# Altium schematic symbol library Resistors.SchLib: 237 symbols (part 1 of 2)
Pins are listed as number, name and electrical type; pins without a type are passive.

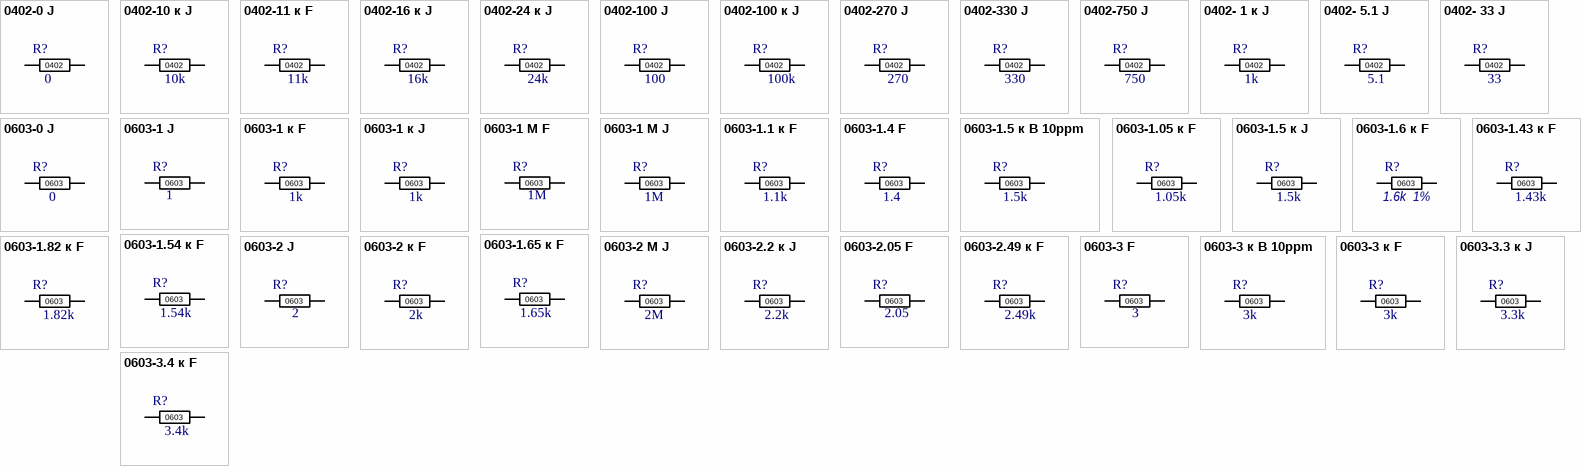
[diagram p0: symbols 0402-0 J to 0603-3.4 к F]

## 0402-0 J
designator R?  value 0  Foot: 0402  (hidden comment: 0402-0 J)
Резистор Чип; Power: 0.062W
footprint R 0402 (Chip Capacitor, 2-Leads, Body 1,00x0,50mm, IPC Medium Density)
pins: 1, 2

## 0402-10 к J
designator R?  value 10k  Foot: 0402  (hidden comment: 0402-10 к J)
Резистор Чип; Power: 0.062W
footprint resistor_0402 (Chip Capacitor, 2-Leads, Body 1,00x0,50mm, IPC Medium Density)
pins: 1, 2

## 0402-11 к F
designator R?  value 11k  Foot: 0402  (hidden comment: 0402-11 к F)
Резистор Чип; Power: 0.062W
footprint resistor_0402 (Chip Capacitor, 2-Leads, Body 1,00x0,50mm, IPC Medium Density)
pins: 1, 2

## 0402-16 к J
designator R?  value 16k  Foot: 0402  (hidden comment: 0402-16 к J)
Резистор Чип; Power: 0.062W
footprint resistor_0402 (Chip Capacitor, 2-Leads, Body 1,00x0,50mm, IPC Medium Density)
pins: 1, 2

## 0402-24 к J
designator R?  value 24k  Foot: 0402  (hidden comment: 0402-24 к J)
Резистор Чип; Power: 0.062W
footprint resistor_0402 (Chip Capacitor, 2-Leads, Body 1,00x0,50mm, IPC Medium Density)
pins: 1, 2

## 0402-100 J
designator R?  value 100  Foot: 0402  (hidden comment: 0402-100 J)
Резистор Чип; Power: 0.062W
footprint resistor_0402 (Chip Capacitor, 2-Leads, Body 1,00x0,50mm, IPC Medium Density)
pins: 1, 2

## 0402-100 к J
designator R?  value 100k  Foot: 0402  (hidden comment: 0402-100 к J)
Резистор Чип; Power: 0.062W
footprint resistor_0402 (Chip Capacitor, 2-Leads, Body 1,00x0,50mm, IPC Medium Density)
pins: 1, 2

## 0402-270 J
designator R?  value 270  Foot: 0402  (hidden comment: 0402-270 J)
Резистор Чип; Power: 0.062W
footprint R 0402 (Chip Capacitor, 2-Leads, Body 1,00x0,50mm, IPC Medium Density)
pins: 1, 2

## 0402-330 J
designator R?  value 330  Foot: 0402  (hidden comment: 0402-330 J)
Резистор Чип; Power: 0.062W
footprint resistor_0402 (Chip Capacitor, 2-Leads, Body 1,00x0,50mm, IPC Medium Density)
pins: 1, 2

## 0402-750 J
designator R?  value 750  Foot: 0402  (hidden comment: 0402-750 J)
Резистор Чип; Power: 0.062W
footprint resistor_0402 (Chip Capacitor, 2-Leads, Body 1,00x0,50mm, IPC Medium Density)
pins: 1, 2

## 0402- 1 к J
designator R?  value 1k  Foot: 0402  (hidden comment: 0402- 1 к J)
Резистор Чип; Power: 0.062W
footprint resistor_0402 (Chip Capacitor, 2-Leads, Body 1,00x0,50mm, IPC Medium Density)
pins: 1, 2

## 0402- 5.1 J
designator R?  value 5.1  Foot: 0402  (hidden comment: 0402- 5.1 J)
Резистор Чип; Power: 0.062W
footprint resistor_0402 (Chip Capacitor, 2-Leads, Body 1,00x0,50mm, IPC Medium Density)
pins: 1, 2

## 0402- 33 J
designator R?  value 33  Foot: 0402  (hidden comment: 0402- 33 J)
Резистор Чип; Power: 0.062W
footprint resistor_0402 (Chip Capacitor, 2-Leads, Body 1,00x0,50mm, IPC Medium Density)
pins: 1, 2

## 0603-0 J
designator R?, comment value 0  Foot: 0603  (hidden comment: 0603-0  J)
Резистор Чип; Power: 0.1W
footprint RESistor_0603 (Chip Capacitor, 2-Leads, Body 1,60x0,80mm, IPC Medium Density)
pins: 1, 2

## 0603-1 J
designator R?, comment value 1  Foot: 0603  (hidden comment: 0603-1  J)
Резистор Чип; Power: 0.1W; Price, $: 0.015
footprint RESistor_0603 (Chip Capacitor, 2-Leads, Body 1,60x0,80mm, IPC Medium Density)
pins: 1, 2

## 0603-1 к F
designator R?  value 1k  Foot: 0603  (hidden comment: 0603-1 к F)
Резистор Чип; Power: 0.1W; Tolerance: 1%
footprint RESistor_0603 (Chip Capacitor, 2-Leads, Body 1,60x0,80mm, IPC Medium Density)
pins: 1, 2

## 0603-1 к J
designator R?  value 1k  Foot: 0603  (hidden comment: 0603-1 к J)
Резистор Чип; Power: 0.1W; Price, $: 0.015
footprint RESistor_0603 (Chip Capacitor, 2-Leads, Body 1,60x0,80mm, IPC Medium Density)
pins: 1, 2

## 0603-1 М F
designator R?  value 1M  Foot: 0603  (hidden comment: 0603-1 М F)
Резистор Чип; Power: 0.125W; Tolerance: 1%
footprint RESistor_0603 (Chip Capacitor, 2-Leads, Body 1,60x0,80mm, IPC Medium Density)
pins: 1, 2

## 0603-1 М J
designator R?  value 1M  Foot: 0603  (hidden comment: 0603-1 М J)
Резистор Чип; Power: 0.1W; Price, $: 0.015
footprint RESistor_0603 (Chip Capacitor, 2-Leads, Body 1,60x0,80mm, IPC Medium Density)
pins: 1, 2

## 0603-1.1 к F
designator R?  value 1.1k  Foot: 0603  (hidden comment: 0603-1.1 к F)
Резистор Чип; Power: 0.1W; Tolerance: 1%; Price, $: 0.025
footprint RESistor_0603 (Chip Capacitor, 2-Leads, Body 1,60x0,80mm, IPC Medium Density)
pins: 1, 2

## 0603-1.4 F
designator R?  value 1.4  Foot: 0603  (hidden comment: 0603-1.4 F)
Резистор Чип; Power: 0.1W; Tolerance: 1%
footprint resistor_0603 (Chip Capacitor, 2-Leads, Body 1,60x0,80mm, IPC Medium Density)
pins: 1, 2

## 0603-1.5 к B 10ppm
designator R?, comment value 1.5k  Foot: 0603  (hidden comment: RT0603BRB071K5L, Yageo)
Резистор Чип; Power: 0.1W; Tolerance: 0.1%; Temperature Coefficient: 10 ppm; Price, $: 0.3
footprint resistor_0603 (Chip Capacitor, 2-Leads, Body 1,60x0,80mm, IPC Medium Density)
pins: 1, 2

## 0603-1.05 к F
designator R?  value 1.05k  Foot: 0603  (hidden comment: 0603-1.05 к F)
Резистор Чип; Power: 0.1W; Tolerance: 1%
footprint RESistor_0603 (Chip Capacitor, 2-Leads, Body 1,60x0,80mm, IPC Medium Density)
pins: 1, 2

## 0603-1.5 к J
designator R?  value 1.5k  Foot: 0603  (hidden comment: 0603-1.5 к J)
Резистор Чип; Power: 0.1W
footprint resistor_0603 (Chip Capacitor, 2-Leads, Body 1,60x0,80mm, IPC Medium Density)
pins: 1, 2

## 0603-1.6 к F
designator R?  value 1.6k  Tolerance: 1%  Foot: 0603  (hidden comment: 0603-1.6 к F)
Резистор Чип; Power: 0.1W
footprint resistor_0603 (Chip Capacitor, 2-Leads, Body 1,60x0,80mm, IPC Medium Density)
pins: 1, 2

## 0603-1.43 к F
designator R?  value 1.43k  Foot: 0603  (hidden comment: 0603-1.43 к F)
Резистор Чип; Power: 0.1W; Tolerance: 1%
footprint resistor_0603 (Chip Capacitor, 2-Leads, Body 1,60x0,80mm, IPC Medium Density)
pins: 1, 2

## 0603-1.54 к F
designator R?  value 1.54k  Foot: 0603  (hidden comment: 0603-1.54 к F)
Резистор Чип; Power: 0.1W; Tolerance: 1%
footprint resistor_0603 (Chip Capacitor, 2-Leads, Body 1,60x0,80mm, IPC Medium Density)
pins: 1, 2

## 0603-1.65 к F
designator R?  value 1.65k  Foot: 0603  (hidden comment: 0603-1.65 к F)
Резистор Чип; Power: 0.1W; Tolerance: 1%
footprint resistor_0603 (Chip Capacitor, 2-Leads, Body 1,60x0,80mm, IPC Medium Density)
pins: 1, 2

## 0603-1.82 к F
designator R?  value 1.82k  Foot: 0603  (hidden comment: 0603-1.82 к F)
Резистор Чип; Power: 0.1W; Tolerance: 1%
footprint resistor_0603 (Chip Capacitor, 2-Leads, Body 1,60x0,80mm, IPC Medium Density)
pins: 1, 2

## 0603-2 J
designator R?  value 2  Foot: 0603  (hidden comment: 0603-2 J)
Резистор Чип; Power: 0.1W
footprint resistor_0603 (Chip Capacitor, 2-Leads, Body 1,60x0,80mm, IPC Medium Density)
pins: 1, 2

## 0603-2 к F
designator R?  value 2k  Foot: 0603  (hidden comment: 0603-2 к F)
Резистор Чип; Power: 0.1W; Tolerance: 1%; Price, $: 0.015
footprint resistor_0603 (Chip Capacitor, 2-Leads, Body 1,60x0,80mm, IPC Medium Density)
pins: 1, 2

## 0603-2 М J
designator R?  value 2M  Foot: 0603  (hidden comment: 0603-2 М J)
Резистор Чип; Power: 0.1W; Price, $: 0.015
footprint resistor_0603 (Chip Capacitor, 2-Leads, Body 1,60x0,80mm, IPC Medium Density)
pins: 1, 2

## 0603-2.2 к J
designator R?  value 2.2k  Foot: 0603  (hidden comment: 0603-2.2 к J)
Резистор Чип; Power: 0.1W
footprint resistor_0603 (Chip Capacitor, 2-Leads, Body 1,60x0,80mm, IPC Medium Density)
pins: 1, 2

## 0603-2.05 F
designator R?  value 2.05  Foot: 0603  (hidden comment: 0603-2.05 F)
Резистор Чип; Power: 0.1W; Tolerance: 1%
footprint resistor_0603 (Chip Capacitor, 2-Leads, Body 1,60x0,80mm, IPC Medium Density)
pins: 1, 2

## 0603-2.49 к F
designator R?  value 2.49k  Foot: 0603  (hidden comment: 0603-2.49 к F)
Резистор Чип; Power: 0.1W; Tolerance: 1%
footprint resistor_0603 (Chip Capacitor, 2-Leads, Body 1,60x0,80mm, IPC Medium Density)
pins: 1, 2

## 0603-3 F
designator R?  value 3  Foot: 0603  (hidden comment: 0603-3 F)
Резистор Чип; Power: 0.1W; Tolerance: 1%
footprint resistor_0603 (Chip Capacitor, 2-Leads, Body 1,60x0,80mm, IPC Medium Density)
pins: 1, 2

## 0603-3 к B 10ppm
designator R?, comment value 3k  Foot: 0603  (hidden comment: RT0603BRB073KL, Yageo)
Резистор Чип; Power: 0.1W; Tolerance: 0.1%; Temperature Coefficient: 10 ppm; Price, $: 0.3
footprint resistor_0603 (Chip Capacitor, 2-Leads, Body 1,60x0,80mm, IPC Medium Density)
pins: 1, 2

## 0603-3 к F
designator R?  value 3k  Foot: 0603  (hidden comment: 0603-3 к F)
Резистор Чип; Power: 0.1W; Tolerance: 1%
footprint resistor_0603 (Chip Capacitor, 2-Leads, Body 1,60x0,80mm, IPC Medium Density)
pins: 1, 2

## 0603-3.3 к J
designator R?  value 3.3k  Foot: 0603  (hidden comment: 0603-3.3 к J)
Резистор Чип; Power: 0.1W; Price, $: 0.015
footprint resistor_0603 (Chip Capacitor, 2-Leads, Body 1,60x0,80mm, IPC Medium Density)
pins: 1, 2

## 0603-3.4 к F
designator R?  value 3.4k  Foot: 0603  (hidden comment: 0603-3.4 к F)
Резистор Чип; Power: 0.1W; Tolerance: 1%
footprint resistor_0603 (Chip Capacitor, 2-Leads, Body 1,60x0,80mm, IPC Medium Density)
pins: 1, 2

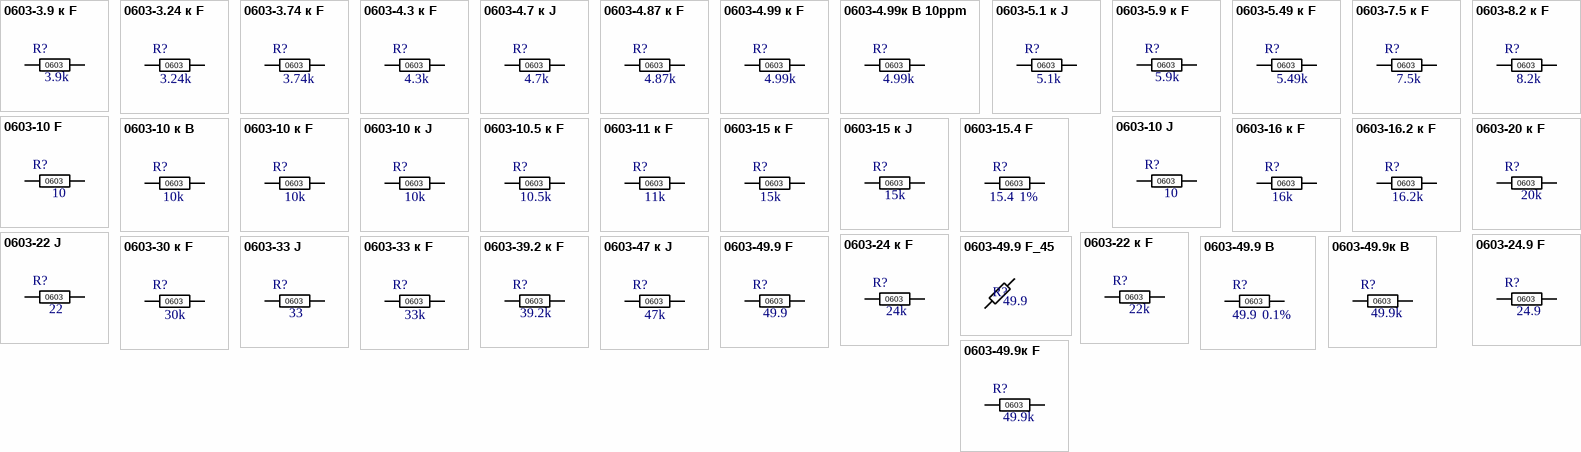
[diagram p1: symbols 0603-3.9 к F to 0603-49.9к F]

## 0603-3.9 к F
designator R?  value 3.9k  Foot: 0603  (hidden comment: 0603-3.9 к F)
Резистор Чип; Power: 0.1W; Tolerance: 1%
footprint resistor_0603 (Chip Capacitor, 2-Leads, Body 1,60x0,80mm, IPC Medium Density)
pins: 1, 2

## 0603-3.24 к F
designator R?  value 3.24k  Foot: 0603  (hidden comment: 0603-3.24 к F)
Резистор Чип; Power: 0.1W; Tolerance: 1%
footprint resistor_0603 (Chip Capacitor, 2-Leads, Body 1,60x0,80mm, IPC Medium Density)
pins: 1, 2

## 0603-3.74 к F
designator R?  value 3.74k  Foot: 0603  (hidden comment: 0603-3.74 к F)
Резистор Чип; Power: 0.1W; Tolerance: 1%
footprint resistor_0603 (Chip Capacitor, 2-Leads, Body 1,60x0,80mm, IPC Medium Density)
pins: 1, 2

## 0603-4.3 к F
designator R?  value 4.3k  Foot: 0603  (hidden comment: 0603-4.3 к F)
Резистор Чип; Power: 0.1W; Tolerance: 1%
footprint resistor_0603 (Chip Capacitor, 2-Leads, Body 1,60x0,80mm, IPC Medium Density)
pins: 1, 2

## 0603-4.7 к J
designator R?  value 4.7k  Foot: 0603  (hidden comment: 0603-4.7 к J)
Резистор Чип; Power: 0.1W; Price, $: 0.015
footprint resistor_0603 (Chip Capacitor, 2-Leads, Body 1,60x0,80mm, IPC Medium Density)
pins: 1, 2

## 0603-4.87 к F
designator R?  value 4.87k  Foot: 0603  (hidden comment: 0603-4.87 к F)
Резистор Чип; Power: 0.1W; Tolerance: 1%
footprint resistor_0603 (Chip Capacitor, 2-Leads, Body 1,60x0,80mm, IPC Medium Density)
pins: 1, 2

## 0603-4.99 к F
designator R?  value 4.99k  Foot: 0603  (hidden comment: 0603-4.99 к F)
Резистор Чип; Power: 0.1W; Tolerance: 1%; Price, $: 0.025
footprint resistor_0603 (Chip Capacitor, 2-Leads, Body 1,60x0,80mm, IPC Medium Density)
pins: 1, 2

## 0603-4.99к B 10ppm
designator R?  value 4.99k  Foot: 0603  (hidden comment: 0603-4.99к B 10ppm)
Резистор Чип; Power: 0.1W; Tolerance: 0.1%; Temperature Coefficient: 10ppm
footprint resistor_0603 (Chip Capacitor, 2-Leads, Body 1,60x0,80mm, IPC Medium Density)
pins: 1, 2

## 0603-5.1 к J
designator R?  value 5.1k  Foot: 0603  (hidden comment: 0603-5.1 к J)
Резистор Чип; Power: 0.1W
footprint resistor_0603 (Chip Capacitor, 2-Leads, Body 1,60x0,80mm, IPC Medium Density)
pins: 1, 2

## 0603-5.9 к F
designator R?  value 5.9k  Foot: 0603  (hidden comment: 0603-5.9 к F)
Резистор Чип; Power: 0.1W; Tolerance: 1%
footprint resistor_0603 (Chip Capacitor, 2-Leads, Body 1,60x0,80mm, IPC Medium Density)
pins: 1, 2

## 0603-5.49 к F
designator R?  value 5.49k  Foot: 0603  (hidden comment: 0603-5.49 к F)
Резистор Чип; Power: 0.1W; Tolerance: 1%
footprint resistor_0603 (Chip Capacitor, 2-Leads, Body 1,60x0,80mm, IPC Medium Density)
pins: 1, 2

## 0603-7.5 к F
designator R?  value 7.5k  Foot: 0603  (hidden comment: 0603-7.5 к F)
Резистор Чип; Power: 0.1W; Tolerance: 1%
footprint resistor_0603 (Chip Capacitor, 2-Leads, Body 1,60x0,80mm, IPC Medium Density)
pins: 1, 2

## 0603-8.2 к F
designator R?  value 8.2k  Foot: 0603  (hidden comment: 0603-8.2 к F)
Резистор Чип; Power: 0.1W; Tolerance: 1%
footprint resistor_0603 (Chip Capacitor, 2-Leads, Body 1,60x0,80mm, IPC Medium Density)
pins: 1, 2

## 0603-10 F
designator R?  value 10  Foot: 0603  (hidden comment: 0603-10 F)
Резистор Чип; Power: 0.1W; Tolerance: 1%; Price, $: 0.025
footprint resistor_0603 (Chip Capacitor, 2-Leads, Body 1,60x0,80mm, IPC Medium Density)
pins: 1, 2

## 0603-10 J
designator R?  value 10  Foot: 0603  (hidden comment: 0603-10 J)
Резистор Чип; Power: 0.1W
footprint resistor_0603 (Chip Capacitor, 2-Leads, Body 1,60x0,80mm, IPC Medium Density)
pins: 1, 2

## 0603-10 к B
designator R?  value 10k  Foot: 0603  (hidden comment: 0603-10 к B)
Резистор Чип; Power: 0.1W; Tolerance: 0.1%
footprint resistor_0603 (Chip Capacitor, 2-Leads, Body 1,60x0,80mm, IPC Medium Density)
pins: 1, 2

## 0603-10 к F
designator R?, comment value 10k  Foot: 0603  (hidden comment: 0603-10к F)
Резистор Чип; Power: 0.1W; Tolerance: 1%
footprint resistor_0603 (Chip Capacitor, 2-Leads, Body 1,60x0,80mm, IPC Medium Density)
pins: 1, 2

## 0603-10 к J
designator R?, comment value 10k  Foot: 0603  (hidden comment: 0603-10к J)
Резистор Чип; Power: 0.1W; Price, $: 0.015
footprint resistor_0603 (Chip Capacitor, 2-Leads, Body 1,60x0,80mm, IPC Medium Density)
pins: 1, 2

## 0603-10.5 к F
designator R?  value 10.5k  Foot: 0603  (hidden comment: 0603-10.5 к F)
Резистор Чип; Power: 0.125W; Tolerance: 1%
footprint resistor_0603 (Chip Capacitor, 2-Leads, Body 1,60x0,80mm, IPC Medium Density)
pins: 1, 2

## 0603-11 к F
designator R?  value 11k  Foot: 0603  (hidden comment: 0603-11 к F)
Резистор Чип; Power: 0.1W; Tolerance: 1%; Price, $: 0.025
footprint resistor_0603 (Chip Capacitor, 2-Leads, Body 1,60x0,80mm, IPC Medium Density)
pins: 1, 2

## 0603-15 к F
designator R?  value 15k  Foot: 0603  (hidden comment: 0603-15 к F)
Резистор Чип; Power: 0.1W; Tolerance: 1%
footprint resistor_0603 (Chip Capacitor, 2-Leads, Body 1,60x0,80mm, IPC Medium Density)
pins: 1, 2

## 0603-15 к J
designator R?  value 15k  Foot: 0603  (hidden comment: 0603-15 к J)
Резистор Чип; Power: 0.1W
footprint resistor_0603 (Chip Capacitor, 2-Leads, Body 1,60x0,80mm, IPC Medium Density)
pins: 1, 2

## 0603-15.4 F
designator R?  value 15.4  Tolerance: 1%  Foot: 0603  (hidden comment: 0603-15.4 F)
Резистор Чип; Power: 0.1W
footprint resistor_0603 (Chip Capacitor, 2-Leads, Body 1,60x0,80mm, IPC Medium Density)
pins: 1, 2

## 0603-16 к F
designator R?  value 16k  Foot: 0603  (hidden comment: 0603-16 к F)
Резистор Чип; Power: 0.1W; Tolerance: 1%
footprint resistor_0603 (Chip Capacitor, 2-Leads, Body 1,60x0,80mm, IPC Medium Density)
pins: 1, 2

## 0603-16.2 к F
designator R?  value 16.2k  Foot: 0603  (hidden comment: 0603-16.2 к F)
Резистор Чип; Power: 0.1W; Tolerance: 1%
footprint resistor_0603 (Chip Capacitor, 2-Leads, Body 1,60x0,80mm, IPC Medium Density)
pins: 1, 2

## 0603-20 к F
designator R?  value 20k  Foot: 0603  (hidden comment: 0603-20 к F)
Резистор Чип; Power: 0.1W; Tolerance: 1%
footprint resistor_0603 (Chip Capacitor, 2-Leads, Body 1,60x0,80mm, IPC Medium Density)
pins: 1, 2

## 0603-22 J
designator R?  value 22  Foot: 0603  (hidden comment: 0603-22 J)
Резистор Чип; Power: 0.1W
footprint resistor_0603 (Chip Capacitor, 2-Leads, Body 1,60x0,80mm, IPC Medium Density)
pins: 1, 2

## 0603-22 к F
designator R?  value 22k  Foot: 0603  (hidden comment: 0603-22 к F)
Резистор Чип; Power: 0.1W; Tolerance: 1%
footprint resistor_0603 (Chip Capacitor, 2-Leads, Body 1,60x0,80mm, IPC Medium Density)
pins: 1, 2

## 0603-24 к F
designator R?  value 24k  Foot: 0603  (hidden comment: 0603-24 к F)
Резистор Чип; Power: 0.1W; Tolerance: 1%
footprint resistor_0603 (Chip Capacitor, 2-Leads, Body 1,60x0,80mm, IPC Medium Density)
pins: 1, 2

## 0603-24.9 F
designator R?  value 24.9  Foot: 0603  (hidden comment: 0603-24.9 F)
Резистор Чип; Power: 0.1W; Tolerance: 1%
footprint resistor_0603 (Chip Capacitor, 2-Leads, Body 1,60x0,80mm, IPC Medium Density)
pins: 1, 2

## 0603-30 к F
designator R?, comment value 30k  Foot: 0603  (hidden comment: 0603-30к F)
Резистор Чип; Power: 0.1W; Tolerance: 1%
footprint resistor_0603 (Chip Capacitor, 2-Leads, Body 1,60x0,80mm, IPC Medium Density)
pins: 1, 2

## 0603-33 J
designator R?  value 33  Foot: 0603  (hidden comment: 0603-33 J)
Резистор Чип; Power: 0.1W
footprint resistor_0603 (Chip Capacitor, 2-Leads, Body 1,60x0,80mm, IPC Medium Density)
pins: 1, 2

## 0603-33 к F
designator R?  value 33k  Foot: 0603  (hidden comment: 0603-33 к F)
Резистор Чип; Power: 0.1W; Tolerance: 1%; Price, $: 0.025
footprint resistor_0603 (Chip Capacitor, 2-Leads, Body 1,60x0,80mm, IPC Medium Density)
pins: 1, 2

## 0603-39.2 к F
designator R?  value 39.2k  Foot: 0603  (hidden comment: 0603-39.2 к F)
Резистор Чип; Power: 0.1W; Tolerance: 1%
footprint resistor_0603 (Chip Capacitor, 2-Leads, Body 1,60x0,80mm, IPC Medium Density)
pins: 1, 2

## 0603-47 к J
designator R?, comment value 47k  Foot: 0603  (hidden comment: 0603-47к J)
Резистор Чип; Power: 0.1W
footprint resistor_0603 (Chip Capacitor, 2-Leads, Body 1,60x0,80mm, IPC Medium Density)
pins: 1, 2

## 0603-49.9 B
designator R?, comment value 49.9  Tolerance: 0.1%  Foot: 0603  (hidden comment: 0603-49.9 B 10ppm)
Резистор Чип; Power: 0.1W; Temperature Coefficient: 10ppm
footprint resistor_0603 (Chip Capacitor, 2-Leads, Body 1,60x0,80mm, IPC Medium Density)
pins: 1, 2

## 0603-49.9 F
designator R?  value 49.9  Foot: 0603  (hidden comment: 0603-49.9 F)
Резистор Чип; Power: 0.1W; Tolerance: 1%
footprint resistor_0603 (Chip Capacitor, 2-Leads, Body 1,60x0,80mm, IPC Medium Density)
pins: 1, 2

## 0603-49.9 F_45
designator R?  value 49.9  (hidden comment: 0603-49.9 F_45)
Резистор Чип; Power: 0.1W; Tolerance: 1%
footprint resistor_0603 (Chip Capacitor, 2-Leads, Body 1,60x0,80mm, IPC Medium Density)
pins: 1, 2

## 0603-49.9к B
designator R?  value 49.9k  Foot: 0603  (hidden comment: 0603-49.9к B)
Резистор Чип; Power: 0.1W; Tolerance: 0.1%
footprint R 0603 (Chip Capacitor, 2-Leads, Body 1,60x0,80mm, IPC Medium Density)
pins: 1, 2

## 0603-49.9к F
designator R?  value 49.9k  Foot: 0603  (hidden comment: 0603-49.9к F)
Резистор Чип; Power: 0.1W; Tolerance: 1%
footprint resistor_0603 (Chip Capacitor, 2-Leads, Body 1,60x0,80mm, IPC Medium Density)
pins: 1, 2

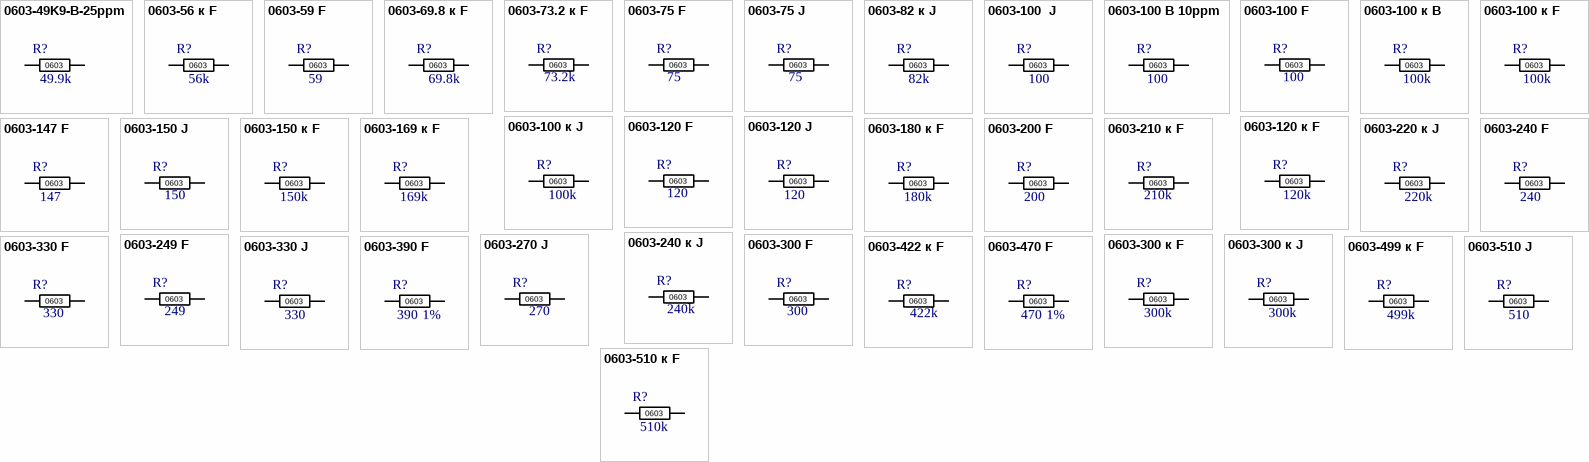
[diagram p2: symbols 0603-49K9-B-25ppm to 0603-510 к F]

## 0603-49K9-B-25ppm
designator R?  value 49.9k  Foot: 0603  (hidden comment: 0603-49K9-B-25ppm)
Резистор Чип; Power: 0.125W; Tolerance: 0.1%
footprint resistor_0603 (Chip Capacitor, 2-Leads, Body 1,60x0,80mm, IPC Medium Density)
pins: 1, 2

## 0603-56 к F
designator R?  value 56k  Foot: 0603  (hidden comment: 0603-56 к F)
Резистор Чип; Power: 0.1W; Tolerance: 1%
footprint resistor_0603 (Chip Capacitor, 2-Leads, Body 1,60x0,80mm, IPC Medium Density)
pins: 1, 2

## 0603-59 F
designator R?  value 59  Foot: 0603  (hidden comment: 0603-59 F)
Резистор Чип; Power: 0.1W; Tolerance: 1%
footprint resistor_0603 (Chip Capacitor, 2-Leads, Body 1,60x0,80mm, IPC Medium Density)
pins: 1, 2

## 0603-69.8 к F
designator R?  value 69.8k  Foot: 0603  (hidden comment: 0603-69.8 к F)
Резистор Чип; Power: 0.1W; Tolerance: 1%
footprint resistor_0603 (Chip Capacitor, 2-Leads, Body 1,60x0,80mm, IPC Medium Density)
pins: 1, 2

## 0603-73.2 к F
designator R?  value 73.2k  Foot: 0603  (hidden comment: 0603-73.2 к F)
Резистор Чип; Power: 0.1W; Tolerance: 1%
footprint resistor_0603 (Chip Capacitor, 2-Leads, Body 1,60x0,80mm, IPC Medium Density)
pins: 1, 2

## 0603-75 F
designator R?  value 75  Foot: 0603  (hidden comment: 0603-75 F)
Резистор Чип; Power: 0.1W; Tolerance: 1%; Price, $: 0.015
footprint resistor_0603 (Chip Capacitor, 2-Leads, Body 1,60x0,80mm, IPC Medium Density)
pins: 1, 2

## 0603-75 J
designator R?  value 75  Foot: 0603  (hidden comment: 0603-75 J)
Резистор Чип; Power: 0.1W
footprint resistor_0603 (Chip Capacitor, 2-Leads, Body 1,60x0,80mm, IPC Medium Density)
pins: 1, 2

## 0603-82 к J
designator R?  value 82k  Foot: 0603  (hidden comment: 0603-82 к J)
Резистор Чип; Power: 0.1W
footprint resistor_0603 (Chip Capacitor, 2-Leads, Body 1,60x0,80mm, IPC Medium Density)
pins: 1, 2

## 0603-100  J
designator R?, comment value 100  Foot: 0603  (hidden comment: 0603-100 J)
Резистор Чип; Power: 0.1W; Price, $: 0.015
footprint resistor_0603 (Chip Capacitor, 2-Leads, Body 1,60x0,80mm, IPC Medium Density)
pins: 1, 2

## 0603-100 B 10ppm
designator R?  value 100  Foot: 0603  (hidden comment: 0603-100 B 10ppm)
Резистор Чип; Power: 0.1W; Tolerance: 0.1%; Temperature Coefficient: 10ppm
footprint resistor_0603 (Chip Capacitor, 2-Leads, Body 1,60x0,80mm, IPC Medium Density)
pins: 1, 2

## 0603-100 F
designator R?  value 100  Foot: 0603  (hidden comment: 0603-100 F)
Резистор Чип; Power: 0.1W; Tolerance: 1%; Price, $: 0.025
footprint resistor_0603 (Chip Capacitor, 2-Leads, Body 1,60x0,80mm, IPC Medium Density)
pins: 1, 2

## 0603-100 к B
designator R?  value 100k  Foot: 0603  (hidden comment: 0603-100 к B)
Резистор Чип; Power: 0.1W; Tolerance: 0.1%
footprint resistor_0603 (Chip Capacitor, 2-Leads, Body 1,60x0,80mm, IPC Medium Density)
pins: 1, 2

## 0603-100 к F
designator R?  value 100k  Foot: 0603  (hidden comment: 0603-100 к F)
Резистор Чип; Power: 0.1W; Tolerance: 1%
footprint resistor_0603 (Chip Capacitor, 2-Leads, Body 1,60x0,80mm, IPC Medium Density)
pins: 1, 2

## 0603-100 к J
designator R?, comment value 100k  Foot: 0603  (hidden comment: 0603-100к J)
Резистор Чип; Power: 0.1W; Price, $: 0.015
footprint resistor_0603 (Chip Capacitor, 2-Leads, Body 1,60x0,80mm, IPC Medium Density)
pins: 1, 2

## 0603-120 F
designator R?  value 120  Foot: 0603  (hidden comment: 0603-120 F)
Резистор Чип; Power: 0.1W; Tolerance: 1%
footprint resistor_0603 (Chip Capacitor, 2-Leads, Body 1,60x0,80mm, IPC Medium Density)
pins: 1, 2

## 0603-120 J
designator R?  value 120  Foot: 0603  (hidden comment: 0603-120 J)
Резистор Чип; Power: 0.1W; Tolerance: 5%
footprint resistor_0603 (Chip Capacitor, 2-Leads, Body 1,60x0,80mm, IPC Medium Density)
pins: 1, 2

## 0603-120 к F
designator R?  value 120k  Foot: 0603  (hidden comment: 0603-120 к F)
Резистор Чип; Power: 0.1W; Tolerance: 1%
footprint resistor_0603 (Chip Capacitor, 2-Leads, Body 1,60x0,80mm, IPC Medium Density)
pins: 1, 2

## 0603-147 F
designator R?  value 147  Foot: 0603  (hidden comment: 0603-147 F)
Резистор Чип; Power: 0.1W; Tolerance: 1%
footprint resistor_0603 (Chip Capacitor, 2-Leads, Body 1,60x0,80mm, IPC Medium Density)
pins: 1, 2

## 0603-150 J
designator R?  value 150  Foot: 0603  (hidden comment: 0603-150 J)
Резистор Чип; Power: 0.1W
footprint resistor_0603 (Chip Capacitor, 2-Leads, Body 1,60x0,80mm, IPC Medium Density)
pins: 1, 2

## 0603-150 к F
designator R?  value 150k  Foot: 0603  (hidden comment: 0603-150 к F)
Резистор Чип; Power: 0.1W; Tolerance: 1%
footprint resistor_0603 (Chip Capacitor, 2-Leads, Body 1,60x0,80mm, IPC Medium Density)
pins: 1, 2

## 0603-169 к F
designator R?  value 169k  Foot: 0603  (hidden comment: 0603-169 к F)
Резистор Чип; Power: 0.1W; Tolerance: 1%
footprint resistor_0603 (Chip Capacitor, 2-Leads, Body 1,60x0,80mm, IPC Medium Density)
pins: 1, 2

## 0603-180 к F
designator R?  value 180k  Foot: 0603  (hidden comment: 0603-180 к F)
Резистор Чип; Power: 0.1W; Tolerance: 1%
footprint resistor_0603 (Chip Capacitor, 2-Leads, Body 1,60x0,80mm, IPC Medium Density)
pins: 1, 2

## 0603-200 F
designator R?  value 200  Foot: 0603  (hidden comment: 0603-200 F)
Резистор Чип; Power: 0.1W; Tolerance: 1%
footprint resistor_0603 (Chip Capacitor, 2-Leads, Body 1,60x0,80mm, IPC Medium Density)
pins: 1, 2

## 0603-210 к F
designator R?  value 210k  Foot: 0603  (hidden comment: 0603-210 к F)
Резистор Чип; Power: 0.1W; Tolerance: 1%
footprint resistor_0603 (Chip Capacitor, 2-Leads, Body 1,60x0,80mm, IPC Medium Density)
pins: 1, 2

## 0603-220 к J
designator R?, comment value 220k  Foot: 0603  (hidden comment: 0603-220к J)
Резистор Чип; Power: 0.1W
footprint resistor_0603 (Chip Capacitor, 2-Leads, Body 1,60x0,80mm, IPC Medium Density)
pins: 1, 2

## 0603-240 F
designator R?  value 240  Foot: 0603  (hidden comment: 0603-240 F)
Резистор Чип; Power: 0.1W; Tolerance: 1%
footprint resistor_0603 (Chip Capacitor, 2-Leads, Body 1,60x0,80mm, IPC Medium Density)
pins: 1, 2

## 0603-240 к J
designator R?  value 240k  Foot: 0603  (hidden comment: 0603-240 к J)
Резистор Чип; Power: 0.1W
footprint resistor_0603 (Chip Capacitor, 2-Leads, Body 1,60x0,80mm, IPC Medium Density)
pins: 1, 2

## 0603-249 F
designator R?  value 249  Foot: 0603  (hidden comment: 0603-249 F)
Резистор Чип; Power: 0.1W; Tolerance: 1%
footprint resistor_0603 (Chip Capacitor, 2-Leads, Body 1,60x0,80mm, IPC Medium Density)
pins: 1, 2

## 0603-270 J
designator R?  value 270  Foot: 0603  (hidden comment: 0603-270 J)
Резистор Чип; Power: 0.1W
footprint resistor_0603 (Chip Capacitor, 2-Leads, Body 1,60x0,80mm, IPC Medium Density)
pins: 1, 2

## 0603-300 F
designator R?  value 300  Foot: 0603  (hidden comment: 0603-300 F)
Резистор Чип; Power: 0.1W; Tolerance: 1%
footprint resistor_0603 (Chip Capacitor, 2-Leads, Body 1,60x0,80mm, IPC Medium Density)
pins: 1, 2

## 0603-300 к F
designator R?  value 300k  Foot: 0603  (hidden comment: 0603-300 к F)
Резистор Чип; Power: 0.1W; Tolerance: 1%
footprint resistor_0603 (Chip Capacitor, 2-Leads, Body 1,60x0,80mm, IPC Medium Density)
pins: 1, 2

## 0603-300 к J
designator R?, comment value 300k  Foot: 0603  (hidden comment: 0603-300к J)
Резистор Чип; Power: 0.1W
footprint resistor_0603 (Chip Capacitor, 2-Leads, Body 1,60x0,80mm, IPC Medium Density)
pins: 1, 2

## 0603-330 F
designator R?  value 330  Foot: 0603  (hidden comment: 0603-330 F)
Резистор Чип; Power: 0.1W; Tolerance: 1%
footprint resistor_0603 (Chip Capacitor, 2-Leads, Body 1,60x0,80mm, IPC Medium Density)
pins: 1, 2

## 0603-330 J
designator R?  value 330  Foot: 0603  (hidden comment: 0603-330 J)
Резистор Чип; Power: 0.1W; Price, $: 0.015
footprint resistor_0603 (Chip Capacitor, 2-Leads, Body 1,60x0,80mm, IPC Medium Density)
pins: 1, 2

## 0603-390 F
designator R?  value 390  Tolerance: 1%  Foot: 0603  (hidden comment: 0603-390 F)
Резистор Чип; Power: 0.1W; Price, $: 0.025
footprint resistor_0603 (Chip Capacitor, 2-Leads, Body 1,60x0,80mm, IPC Medium Density)
pins: 1, 2

## 0603-422 к F
designator R?  value 422k  Foot: 0603  (hidden comment: 0603-422 к F)
Резистор Чип; Power: 0.1W; Tolerance: 1%
footprint resistor_0603 (Chip Capacitor, 2-Leads, Body 1,60x0,80mm, IPC Medium Density)
pins: 1, 2

## 0603-470 F
designator R?  value 470  Tolerance: 1%  Foot: 0603  (hidden comment: 0603-470 F)
Резистор Чип; Power: 0.1W
footprint resistor_0603 (Chip Capacitor, 2-Leads, Body 1,60x0,80mm, IPC Medium Density)
pins: 1, 2

## 0603-499 к F
designator R?  value 499k  Foot: 0603  (hidden comment: 0603-499 к F)
Резистор Чип; Power: 0.1W; Tolerance: 1%
footprint resistor_0603 (Chip Capacitor, 2-Leads, Body 1,60x0,80mm, IPC Medium Density)
pins: 1, 2

## 0603-510 J
designator R?  value 510  Foot: 0603  (hidden comment: 0603-510 J)
Резистор Чип; Power: 0.1W
footprint resistor_0603 (Chip Capacitor, 2-Leads, Body 1,60x0,80mm, IPC Medium Density)
pins: 1, 2

## 0603-510 к F
designator R?  value 510k  Foot: 0603  (hidden comment: 0603-510 к F)
Резистор Чип; Power: 0.1W; Tolerance: 1%
footprint resistor_0603 (Chip Capacitor, 2-Leads, Body 1,60x0,80mm, IPC Medium Density)
pins: 1, 2

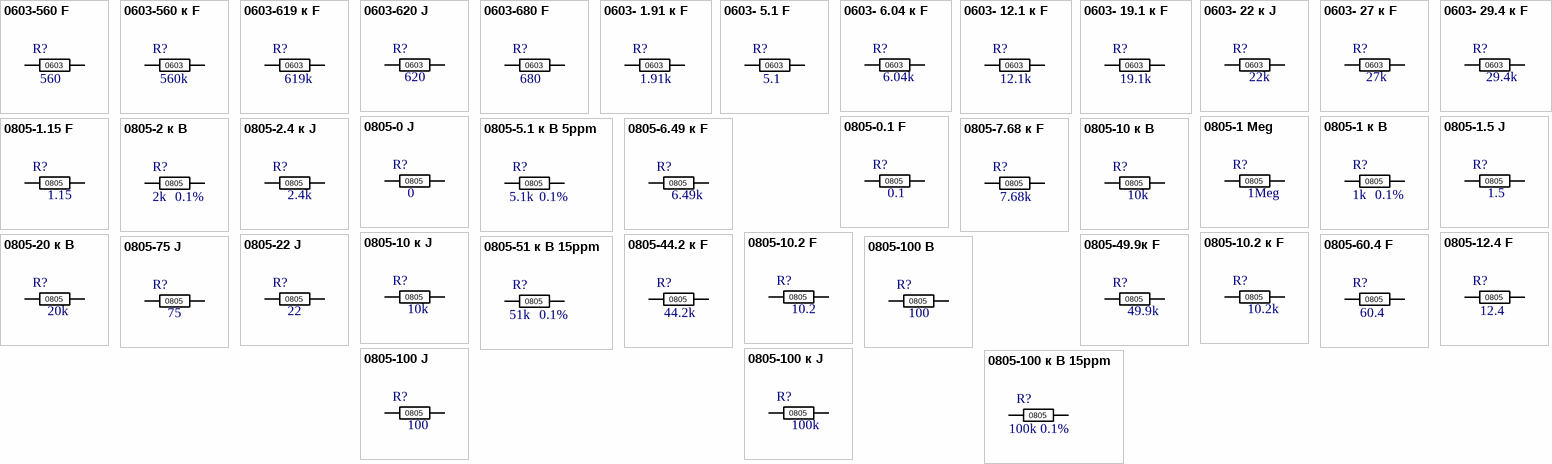
[diagram p3: symbols 0603-560 F to 0805-100 к J]

## 0603-560 F
designator R?  value 560  Foot: 0603  (hidden comment: 0603-560 F)
Резистор Чип; Power: 0.1W; Tolerance: 1%
footprint resistor_0603 (Chip Capacitor, 2-Leads, Body 1,60x0,80mm, IPC Medium Density)
pins: 1, 2

## 0603-560 к F
designator R?  value 560k  Foot: 0603  (hidden comment: 0603-560 к F)
Резистор Чип; Power: 0.1W; Tolerance: 1%
footprint resistor_0603 (Chip Capacitor, 2-Leads, Body 1,60x0,80mm, IPC Medium Density)
pins: 1, 2

## 0603-619 к F
designator R?  value 619k  Foot: 0603  (hidden comment: 0603-619 к F)
Резистор Чип; Power: 0.1W; Tolerance: 1%
footprint resistor_0603 (Chip Capacitor, 2-Leads, Body 1,60x0,80mm, IPC Medium Density)
pins: 1, 2

## 0603-620 J
designator R?  value 620  Foot: 0603  (hidden comment: 0603-620 J)
Резистор Чип; Power: 0.1W
footprint resistor_0603 (Chip Capacitor, 2-Leads, Body 1,60x0,80mm, IPC Medium Density)
pins: 1, 2

## 0603-680 F
designator R?  value 680  Foot: 0603  (hidden comment: 0603-680 F)
Резистор Чип; Power: 0.1W; Tolerance: 1%
footprint resistor_0603 (Chip Capacitor, 2-Leads, Body 1,60x0,80mm, IPC Medium Density)
pins: 1, 2

## 0603- 1.91 к F
designator R?  value 1.91k  Foot: 0603  (hidden comment: 0603- 1.91 к F)
Резистор Чип; Power: 0.1W; Tolerance: 1%
footprint resistor_0603 (Chip Capacitor, 2-Leads, Body 1,60x0,80mm, IPC Medium Density)
pins: 1, 2

## 0603- 5.1 F
designator R?  value 5.1  Foot: 0603  (hidden comment: 0603- 5.1 F)
Резистор Чип; Power: 0.1W; Tolerance: 1%
footprint resistor_0603 (Chip Capacitor, 2-Leads, Body 1,60x0,80mm, IPC Medium Density)
pins: 1, 2

## 0603- 6.04 к F
designator R?  value 6.04k  Foot: 0603  (hidden comment: 0603- 6.04 к F)
Резистор Чип; Power: 0.1W; Tolerance: 1%
footprint resistor_0603 (Chip Capacitor, 2-Leads, Body 1,60x0,80mm, IPC Medium Density)
pins: 1, 2

## 0603- 12.1 к F
designator R?  value 12.1k  Foot: 0603  (hidden comment: 0603- 12.1 к F)
Резистор Чип; Power: 0.1W; Tolerance: 1%
footprint resistor_0603 (Chip Capacitor, 2-Leads, Body 1,60x0,80mm, IPC Medium Density)
pins: 1, 2

## 0603- 19.1 к F
designator R?  value 19.1k  Foot: 0603  (hidden comment: 0603- 19.1 к F)
Резистор Чип; Power: 0.1W; Tolerance: 1%
footprint resistor_0603 (Chip Capacitor, 2-Leads, Body 1,60x0,80mm, IPC Medium Density)
pins: 1, 2

## 0603- 22 к J
designator R?  value 22k  Foot: 0603  (hidden comment: 0603- 22 к J)
Резистор Чип; Power: 0.1W; Tolerance: 5%
footprint resistor_0603 (Chip Capacitor, 2-Leads, Body 1,60x0,80mm, IPC Medium Density)
pins: 1, 2

## 0603- 27 к F
designator R?  value 27k  Foot: 0603  (hidden comment: 0603- 27 к F)
Резистор Чип; Power: 0.1W; Tolerance: 1%
footprint resistor_0603 (Chip Capacitor, 2-Leads, Body 1,60x0,80mm, IPC Medium Density)
pins: 1, 2

## 0603- 29.4 к F
designator R?  value 29.4k  Foot: 0603  (hidden comment: 0603- 29.4 к F)
Резистор Чип; Power: 0.1W; Tolerance: 1%
footprint resistor_0603 (Chip Capacitor, 2-Leads, Body 1,60x0,80mm, IPC Medium Density)
pins: 1, 2

## 0805-0 J
designator R?  value 0  Foot: 0805  (hidden comment: 0805-0 J)
Резистор Чип; Power: 0.125W
footprint resistor_0805 (Chip Resistor, 2-Leads, Body 2,00x1,25mm, IPC Medium Density)
pins: 1, 2

## 0805-0.1 F
designator R?  value 0.1  Foot: 0805  (hidden comment: 0805-0.1 F)
Резистор Чип; Power: 0.125W; Tolerance: 1%
footprint resistor_0805 (Chip Resistor, 2-Leads, Body 2,00x1,25mm, IPC Medium Density)
pins: 1, 2

## 0805-1 Meg
designator R?, comment value 1Meg  Foot: 0805  (hidden comment: 0805-1м J)
Резистор Чип; Power: 0.125W; Точность: 5%
footprint resistor_0805 (Chip Resistor, 2-Leads, Body 2,00x1,25mm, IPC Medium Density)
pins: 1, 2

## 0805-1 к B
designator R?, comment value 1k  Tolerance: 0.1%  Foot: 0805  (hidden comment: PCF0805-13-1K-B-T1 (1108863-Farnell))
Резистор Чип; Power: 0.125W
footprint resistor_0805 (Chip Resistor, 2-Leads, Body 2,00x1,25mm, IPC Medium Density)
pins: 1, 2

## 0805-1.5 J
designator R?  value 1.5  Foot: 0805  (hidden comment: 0805-1.5 J)
Резистор Чип; Power: 0.125W
footprint resistor_0805 (Chip Resistor, 2-Leads, Body 2,00x1,25mm, IPC Medium Density)
pins: 1, 2

## 0805-1.15 F
designator R?  value 1.15  Foot: 0805  (hidden comment: 0805-1.15 F)
Резистор Чип; Power: 0.125W; Tolerance: 1%
footprint resistor_0805 (Chip Resistor, 2-Leads, Body 2,00x1,25mm, IPC Medium Density)
pins: 1, 2

## 0805-2 к B
designator R?, comment value 2k  Tolerance: 0.1%  Foot: 0805  (hidden comment: PCF0805-13-2K-B-T1 (1108872-Farnell))
Резистор Чип; Power: 0.125W
footprint resistor_0805 (Chip Resistor, 2-Leads, Body 2,00x1,25mm, IPC Medium Density)
pins: 1, 2

## 0805-2.4 к J
designator R?  value 2.4k  Foot: 0805  (hidden comment: 0805-2.4 к J)
Резистор Чип; Power: 0.125W
footprint resistor_0805 (Chip Resistor, 2-Leads, Body 2,00x1,25mm, IPC Medium Density)
pins: 1, 2

## 0805-5.1 к B 5ppm
designator R?, comment value 5.1k  Tolerance: 0.1%  Foot: 0805  (hidden comment: PCF0805-13-5K1-B-5ppm)
Резистор Чип; Power: 0.125W; Temperature Coefficient: 5ppm
footprint resistor_0805 (Chip Resistor, 2-Leads, Body 2,00x1,25mm, IPC Medium Density)
pins: 1, 2

## 0805-6.49 к F
designator R?  value 6.49k  Foot: 0805  (hidden comment: 0805-6.49 к F)
Резистор Чип; Power: 0.125W; Tolerance: 1%
footprint resistor_0805 (Chip Resistor, 2-Leads, Body 2,00x1,25mm, IPC Medium Density)
pins: 1, 2

## 0805-7.68 к F
designator R?  value 7.68k  Foot: 0805  (hidden comment: 0805-7.68 к F)
Резистор Чип; Power: 0.125W; Tolerance: 1%
footprint resistor_0805 (Chip Resistor, 2-Leads, Body 2,00x1,25mm, IPC Medium Density)
pins: 1, 2

## 0805-10 к B
designator R?  value 10k  Foot: 0805  (hidden comment: 0805-10 к B)
Резистор Чип; Power: 0.125W; Tolerance: 0.1%
footprint resistor_0805 (Chip Resistor, 2-Leads, Body 2,00x1,25mm, IPC Medium Density)
pins: 1, 2

## 0805-10 к J
designator R?  value 10k  Foot: 0805  (hidden comment: 0805-10 к J)
Резистор Чип; Power: 0.125W; Точность: 5%
footprint resistor_0805 (Chip Resistor, 2-Leads, Body 2,00x1,25mm, IPC Medium Density)
pins: 1, 2

## 0805-10.2 F
designator R?  value 10.2  Foot: 0805  (hidden comment: 0805-10.2 F)
Резистор Чип; Power: 0.125W; Tolerance: 1%
footprint resistor_0805 (Chip Resistor, 2-Leads, Body 2,00x1,25mm, IPC Medium Density)
pins: 1, 2

## 0805-10.2 к F
designator R?  value 10.2k  Foot: 0805  (hidden comment: 0805-10.2 к F)
Резистор Чип; Power: 0.125W; Tolerance: 1%
footprint resistor_0805 (Chip Resistor, 2-Leads, Body 2,00x1,25mm, IPC Medium Density)
pins: 1, 2

## 0805-12.4 F
designator R?  value 12.4  Foot: 0805  (hidden comment: 0805-12.4 F)
Резистор Чип; Power: 0.125W; Tolerance: 1%
footprint resistor_0805 (Chip Resistor, 2-Leads, Body 2,00x1,25mm, IPC Medium Density)
pins: 1, 2

## 0805-20 к B
designator R?  value 20k  Foot: 0805  (hidden comment: 0805-20 к B)
Резистор Чип; Power: 0.125W; Tolerance: 0.1%
footprint resistor_0805 (Chip Resistor, 2-Leads, Body 2,00x1,25mm, IPC Medium Density)
pins: 1, 2

## 0805-22 J
designator R?  value 22  Foot: 0805  (hidden comment: 0805-22 J)
Резистор Чип; Power: 0.125W
footprint resistor_0805 (Chip Resistor, 2-Leads, Body 2,00x1,25mm, IPC Medium Density)
pins: 1, 2

## 0805-44.2 к F
designator R?  value 44.2k  Foot: 0805  (hidden comment: 0805-44.2 к F)
Резистор Чип; Power: 0.125W; Tolerance: 1%
footprint resistor_0805 (Chip Resistor, 2-Leads, Body 2,00x1,25mm, IPC Medium Density)
pins: 1, 2

## 0805-49.9к F
designator R?  value 49.9k  Foot: 0805  (hidden comment: 0805-49.9к F)
Резистор Чип; Power: 0.125W; Tolerance: 1%
footprint resistor_0805 (Chip Resistor, 2-Leads, Body 2,00x1,25mm, IPC Medium Density)
pins: 1, 2

## 0805-51 к B 15ppm
designator R?  value 51k  Tolerance: 0.1%  Foot: 0805  (hidden comment: 0805-51 к B 15ppm)
Резистор Чип; Power: 0.125W; Analog: ERA-6APB513V, Panasonic; Temperature Coefficient: 15ppm
footprint resistor_0805 (Chip Resistor, 2-Leads, Body 2,00x1,25mm, IPC Medium Density)
pins: 1, 2

## 0805-60.4 F
designator R?  value 60.4  Foot: 0805  (hidden comment: 0805-60.4 F)
Резистор Чип; Power: 0.125W; Tolerance: 1%
footprint resistor_0805 (Chip Resistor, 2-Leads, Body 2,00x1,25mm, IPC Medium Density)
pins: 1, 2

## 0805-75 J
designator R?  value 75  Foot: 0805  (hidden comment: 0805-75 J)
Резистор Чип; Power: 0.125W
footprint resistor_0805 (Chip Resistor, 2-Leads, Body 2,00x1,25mm, IPC Medium Density)
pins: 1, 2

## 0805-100 B
designator R?, comment value 100  Foot: 0805  (hidden comment: PCF0805-13-100R-B-T1 (1108835-Farnell))
Резистор Чип; Power: 0.125W; Tolerance: 0.1%; Price, $: 0.38
footprint resistor_0805 (Chip Resistor, 2-Leads, Body 2,00x1,25mm, IPC Medium Density)
pins: 1, 2

## 0805-100 J
designator R?  value 100  Foot: 0805  (hidden comment: 0805-100 J)
Резистор Чип; Power: 0.125W
footprint resistor_0805 (Chip Resistor, 2-Leads, Body 2,00x1,25mm, IPC Medium Density)
pins: 1, 2

## 0805-100 к B 15ppm
designator R?  value 100k  Tolerance: 0.1%  Foot: 0805  (hidden comment: 0805-100 к B 15ppm)
Резистор Чип; Power: 0.125W; Analog: P100KAZCT-ND, Panasonic; Temperature Coefficient: 15ppm
footprint resistor_0805 (Chip Resistor, 2-Leads, Body 2,00x1,25mm, IPC Medium Density)
pins: 1, 2

## 0805-100 к J
designator R?  value 100k  Foot: 0805  (hidden comment: 0805-100 к J)
Резистор Чип; Power: 0.125W; Точность: 5%
footprint resistor_0805 (Chip Resistor, 2-Leads, Body 2,00x1,25mm, IPC Medium Density)
pins: 1, 2

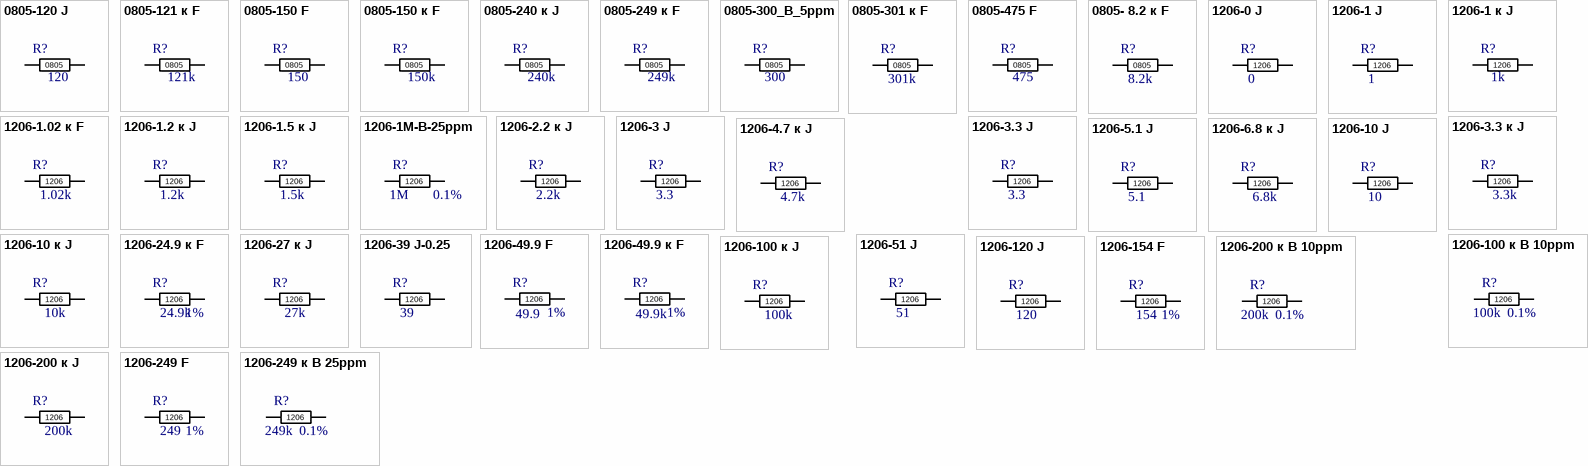
[diagram p4: symbols 0805-120 J to 1206-249 к B 25ppm]

## 0805-120 J
designator R?  value 120  Foot: 0805  (hidden comment: 0805-120 J)
Резистор Чип; Power: 0.125W
footprint resistor_0805 (Chip Resistor, 2-Leads, Body 2,00x1,25mm, IPC Medium Density)
pins: 1, 2

## 0805-121 к F
designator R?  value 121k  Foot: 0805  (hidden comment: 0805-121 к F)
Резистор Чип; Power: 0.125W; Tolerance: 1%
footprint resistor_0805 (Chip Resistor, 2-Leads, Body 2,00x1,25mm, IPC Medium Density)
pins: 1, 2

## 0805-150 F
designator R?  value 150  Foot: 0805  (hidden comment: 0805-150 F)
Резистор Чип; Power: 0.125W; Tolerance: 1%
footprint resistor_0805 (Chip Resistor, 2-Leads, Body 2,00x1,25mm, IPC Medium Density)
pins: 1, 2

## 0805-150 к F
designator R?  value 150k  Foot: 0805  (hidden comment: 0805-150 к F)
Резистор Чип; Power: 0.125W; Tolerance: 1%
footprint resistor_0805 (Chip Resistor, 2-Leads, Body 2,00x1,25mm, IPC Medium Density)
pins: 1, 2

## 0805-240 к J
designator R?  value 240k  Foot: 0805  (hidden comment: 0805-240 к J)
Резистор Чип; Power: 0.125W; Точность: 5%
footprint resistor_0805 (Chip Resistor, 2-Leads, Body 2,00x1,25mm, IPC Medium Density)
pins: 1, 2

## 0805-249 к F
designator R?  value 249k  Foot: 0805  (hidden comment: 0805-249 к F)
Резистор Чип; Power: 0.125W; Tolerance: 1%
footprint resistor_0805 (Chip Resistor, 2-Leads, Body 2,00x1,25mm, IPC Medium Density)
pins: 1, 2

## 0805-300_B_5ppm
designator R?, comment value 300  Foot: 0805  (hidden comment: PCF0805-13-300R-B-T1 (1108848-Farnell))
Резистор Чип; Power: 0.125W; Tolerance: 0.1%; Temperature Coefficient: 5ppm; Price, $: 0.38
footprint resistor_0805 (Chip Resistor, 2-Leads, Body 2,00x1,25mm, IPC Medium Density)
pins: 1, 2

## 0805-301 к F
designator R?  value 301k  Foot: 0805  (hidden comment: 0805-301 к F)
Резистор Чип; Power: 0.1W; Tolerance: 1%
footprint resistor_0805 (Chip Resistor, 2-Leads, Body 2,00x1,25mm, IPC Medium Density)
pins: 1, 2

## 0805-475 F
designator R?  value 475  Foot: 0805  (hidden comment: 0805-475 F)
Резистор Чип; Power: 0.125W; Tolerance: 1%
footprint resistor_0805 (Chip Resistor, 2-Leads, Body 2,00x1,25mm, IPC Medium Density)
pins: 1, 2

## 0805- 8.2 к F
designator R?  value 8.2k  Foot: 0805  (hidden comment: 0805- 8.2 к F)
Резистор Чип; Power: 0.125W; Tolerance: 1%
footprint resistor_0805 (Chip Resistor, 2-Leads, Body 2,00x1,25mm, IPC Medium Density)
pins: 1, 2

## 1206-0 J
designator R?  value 0  Foot: 1206  (hidden comment: 1206-0 J)
Резистор Чип; Power: 0.25W
footprint resistor_1206 (Chip Resistor, 2-Leads, Body 3,15x1,60mm, IPC Medium Density)
pins: 1, 2

## 1206-1 J
designator R?  value 1  Foot: 1206  (hidden comment: 1206-1 J)
Резистор Чип; Power: 0.25W
footprint resistor_1206 (Chip Resistor, 2-Leads, Body 3,15x1,60mm, IPC Medium Density)
pins: 1, 2

## 1206-1 к J
designator R?  value 1k  Foot: 1206  (hidden comment: 1206-1 к J)
Резистор Чип; Power: 0.25W
footprint resistor_1206 (Chip Resistor, 2-Leads, Body 3,15x1,60mm, IPC Medium Density)
pins: 1, 2

## 1206-1.02 к F
designator R?  value 1.02k  Foot: 1206  (hidden comment: 1206-1.02 к F)
Резистор Чип; Power: 0.25W; Tolerance: 1%
footprint resistor_1206 (Chip Resistor, 2-Leads, Body 3,15x1,60mm, IPC Medium Density)
pins: 1, 2

## 1206-1.2 к J
designator R?  value 1.2k  Foot: 1206  (hidden comment: 1206-1.2 к J)
Резистор Чип; Power: 0.25W; Price, $: 0.025
footprint resistor_1206 (Chip Resistor, 2-Leads, Body 3,15x1,60mm, IPC Medium Density)
pins: 1, 2

## 1206-1.5 к J
designator R?  value 1.5k  Foot: 1206  (hidden comment: 1206-1.5 к J)
Резистор Чип; Power: 0.25W; Price, $: 0.025
footprint resistor_1206 (Chip Resistor, 2-Leads, Body 3,15x1,60mm, IPC Medium Density)
pins: 1, 2

## 1206-1M-B-25ppm
designator R?  value 1M  Tolerance: 0.1%  Foot: 1206  (hidden comment: 1206-1M-B-25ppm)
Резистор Чип; Power: 0.25W
footprint resistor_1206 (Chip Resistor, 2-Leads, Body 3,15x1,60mm, IPC Medium Density)
pins: 1, 2

## 1206-2.2 к J
designator R?  value 2.2k  Foot: 1206  (hidden comment: 1206-2.2 к J)
Резистор Чип; Power: 0.25W
footprint resistor_1206 (Chip Resistor, 2-Leads, Body 3,15x1,60mm, IPC Medium Density)
pins: 1, 2

## 1206-3 J
designator R?  value 3.3  Foot: 1206  (hidden comment: 1206-3 J)
Резистор Чип; Power: 0.25W
footprint resistor_1206 (Chip Resistor, 2-Leads, Body 3,15x1,60mm, IPC Medium Density)
pins: 1, 2

## 1206-3.3 J
designator R?  value 3.3  Foot: 1206  (hidden comment: 1206-3.3 J)
Резистор Чип; Power: 0.25W; Price, $: 0.025
footprint resistor_1206 (Chip Resistor, 2-Leads, Body 3,15x1,60mm, IPC Medium Density)
pins: 1, 2

## 1206-3.3 к J
designator R?  value 3.3k  Foot: 1206  (hidden comment: 1206-3.3 к J)
Резистор Чип; Power: 0.25W
footprint resistor_1206 (Chip Resistor, 2-Leads, Body 3,15x1,60mm, IPC Medium Density)
pins: 1, 2

## 1206-4.7 к J
designator R?  value 4.7k  Foot: 1206  (hidden comment: 1206-4.7 к J)
Резистор Чип; Power: 0.25W
footprint resistor_1206 (Chip Resistor, 2-Leads, Body 3,15x1,60mm, IPC Medium Density)
pins: 1, 2

## 1206-5.1 J
designator R?  value 5.1  Foot: 1206  (hidden comment: 1206-5.1 J)
Резистор Чип; Power: 0.25W; Price, $: 0.025
footprint resistor_1206 (Chip Resistor, 2-Leads, Body 3,15x1,60mm, IPC Medium Density)
pins: 1, 2

## 1206-6.8 к J
designator R?  value 6.8k  Foot: 1206  (hidden comment: 1206-6.8 к J)
Резистор Чип; Power: 0.25W
footprint resistor_1206 (Chip Resistor, 2-Leads, Body 3,15x1,60mm, IPC Medium Density)
pins: 1, 2

## 1206-10 J
designator R?  value 10  Foot: 1206  (hidden comment: 1206-10 J)
Резистор Чип; Power: 0.25W
footprint resistor_1206 (Chip Resistor, 2-Leads, Body 3,15x1,60mm, IPC Medium Density)
pins: 1, 2

## 1206-10 к J
designator R?  value 10k  Foot: 1206  (hidden comment: 1206-10 к J)
Резистор Чип; Power: 0.25W
footprint resistor_1206 (Chip Resistor, 2-Leads, Body 3,15x1,60mm, IPC Medium Density)
pins: 1, 2

## 1206-24.9 к F
designator R?  value 24.9k  Tolerance: 1%  Foot: 1206  (hidden comment: 1206-24.9 к F)
Резистор Чип; Power: 0.25W
footprint resistor_1206 (Chip Resistor, 2-Leads, Body 3,15x1,60mm, IPC Medium Density)
pins: 1, 2

## 1206-27 к J
designator R?  value 27k  Foot: 1206  (hidden comment: 1206-27 к J)
Резистор Чип; Power: 0.25W
footprint resistor_1206 (Chip Resistor, 2-Leads, Body 3,15x1,60mm, IPC Medium Density)
pins: 1, 2

## 1206-39 J-0.25
designator R?  value 39  Foot: 1206  (hidden comment: 1206-39 J-0.25)
Резистор Чип; Power: 0.25W; Tolerance: 5%
footprint resistor_1206 (Chip Resistor, 2-Leads, Body 3,15x1,60mm, IPC Medium Density)
pins: 1, 2

## 1206-49.9 F
designator R?  value 49.9  Tolerance: 1%  Foot: 1206  (hidden comment: 1206-49.9 F)
Резистор Чип; Power: 0.25W; Price, $: 0.05
footprint resistor_1206 (Chip Resistor, 2-Leads, Body 3,15x1,60mm, IPC Medium Density)
pins: 1, 2

## 1206-49.9 к F
designator R?  value 49.9k  Tolerance: 1%  Foot: 1206  (hidden comment: 1206-49.9 к F)
Резистор Чип; Power: 0.25W; Price, $: 0.05
footprint resistor_1206 (Chip Resistor, 2-Leads, Body 3,15x1,60mm, IPC Medium Density)
pins: 1, 2

## 1206-51 J
designator R?  value 51  Foot: 1206  (hidden comment: 1206-51 J)
Резистор Чип; Power: 0.25W
footprint resistor_1206 (Chip Resistor, 2-Leads, Body 3,15x1,60mm, IPC Medium Density)
pins: 1, 2

## 1206-100 к B 10ppm
designator R?, comment value 100k  Tolerance: 0.1%  Foot: 1206  (hidden comment: RT1206BRB07100KL, Yageo)
Резистор Чип; Power: 0.25W; Temperature Coefficient: 10 ppm; Price, $: 0.4
footprint resistor_1206 (Chip Resistor, 2-Leads, Body 3,15x1,60mm, IPC Medium Density)
pins: 1, 2

## 1206-100 к J
designator R?  value 100k  Foot: 1206  (hidden comment: 1206-100 к J)
Резистор Чип; Power: 0.25W; Price, $: 0.025
footprint resistor_1206 (Chip Resistor, 2-Leads, Body 3,15x1,60mm, IPC Medium Density)
pins: 1, 2

## 1206-120 J
designator R?  value 120  Foot: 1206  (hidden comment: 1206-120 J)
Резистор Чип; Power: 0.25W
footprint resistor_1206 (Chip Resistor, 2-Leads, Body 3,15x1,60mm, IPC Medium Density)
pins: 1, 2

## 1206-154 F
designator R?  value 154  Tolerance: 1%  Foot: 1206  (hidden comment: 1206-154 F)
Резистор Чип; Power: 0.25W
footprint resistor_1206 (Chip Resistor, 2-Leads, Body 3,15x1,60mm, IPC Medium Density)
pins: 1, 2

## 1206-200 к B 10ppm
designator R?, comment value 200k  Tolerance: 0.1%  Foot: 1206  (hidden comment: RT1206BRB07200KL, Yageo)
Резистор Чип; Power: 0.25W; Temperature Coefficient: 10 ppm; Price, $: 0.4
footprint resistor_1206 (Chip Resistor, 2-Leads, Body 3,15x1,60mm, IPC Medium Density)
pins: 1, 2

## 1206-200 к J
designator R?  value 200k  Foot: 1206  (hidden comment: 1206-200 к J)
Резистор Чип; Power: 0.25W; Price, $: 0.025
footprint resistor_1206 (Chip Resistor, 2-Leads, Body 3,15x1,60mm, IPC Medium Density)
pins: 1, 2

## 1206-249 F
designator R?  value 249  Tolerance: 1%  Foot: 1206  (hidden comment: 1206-249 F)
Резистор Чип; Power: 0.25W
footprint resistor_1206 (Chip Resistor, 2-Leads, Body 3,15x1,60mm, IPC Medium Density)
pins: 1, 2

## 1206-249 к B 25ppm
designator R?, comment value 249k  Tolerance: 0.1%  Foot: 1206  (hidden comment: TNPW1206249KBEEA, Vishay)
Резистор Чип; Power: 0.25W; Temperature Coefficient: 25 ppm; Price, $: 0.4
footprint resistor_1206 (Chip Resistor, 2-Leads, Body 3,15x1,60mm, IPC Medium Density)
pins: 1, 2

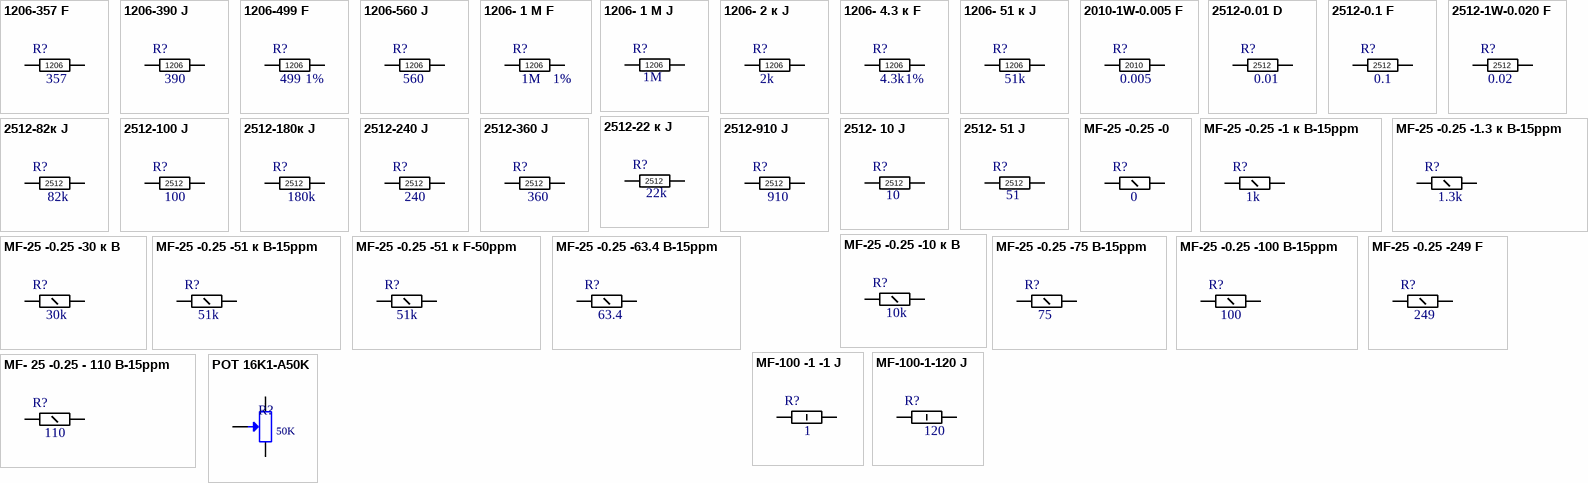
[diagram p5: symbols 1206-357 F to POT 16K1-A50K]

## 1206-357 F
designator R?  value 357  Foot: 1206  (hidden comment: 1206-357 F)
Резистор Чип; Power: 0.25W; Tolerance: 1%
footprint resistor_1206 (Chip Resistor, 2-Leads, Body 3,15x1,60mm, IPC Medium Density)
pins: 1, 2

## 1206-390 J
designator R?  value 390  Foot: 1206  (hidden comment: 1206-390 J)
Резистор Чип; Power: 0.25W; Price, $: 0.025
footprint resistor_1206 (Chip Resistor, 2-Leads, Body 3,15x1,60mm, IPC Medium Density)
pins: 1, 2

## 1206-499 F
designator R?  value 499  Tolerance: 1%  Foot: 1206  (hidden comment: 1206-499 F)
Резистор Чип; Power: 0.25W
footprint resistor_1206 (Chip Resistor, 2-Leads, Body 3,15x1,60mm, IPC Medium Density)
pins: 1, 2

## 1206-560 J
designator R?  value 560  Foot: 1206  (hidden comment: 1206-560 J)
Резистор Чип; Power: 0.25W
footprint resistor_1206 (Chip Resistor, 2-Leads, Body 3,15x1,60mm, IPC Medium Density)
pins: 1, 2

## 1206- 1 М F
designator R?  value 1M  Tolerance: 1%  Foot: 1206  (hidden comment: 1206- 1 М F)
Резистор Чип; Power: 0.25W
footprint resistor_1206 (Chip Resistor, 2-Leads, Body 3,15x1,60mm, IPC Medium Density)
pins: 1, 2

## 1206- 1 М J
designator R?, comment value 1M  Foot: 1206  (hidden comment: 1206-1 М J)
Резистор Чип; Power: 0.25W
footprint resistor_1206 (Chip Resistor, 2-Leads, Body 3,15x1,60mm, IPC Medium Density)
pins: 1, 2

## 1206- 2 к J
designator R?  value 2k  Foot: 1206  (hidden comment: 1206- 2 к J)
Резистор Чип; Power: 0.25W; Price, $: 0.025
footprint resistor_1206 (Chip Resistor, 2-Leads, Body 3,15x1,60mm, IPC Medium Density)
pins: 1, 2

## 1206- 4.3 к F
designator R?  value 4.3k  Tolerance: 1%  Foot: 1206  (hidden comment: 1206- 4.3 к F)
Резистор Чип; Power: 0.25W
footprint resistor_1206 (Chip Resistor, 2-Leads, Body 3,15x1,60mm, IPC Medium Density)
pins: 1, 2

## 1206- 51 к J
designator R?  value 51k  Foot: 1206  (hidden comment: 1206- 51 к J)
Резистор Чип; Power: 0.25W
footprint resistor_1206 (Chip Resistor, 2-Leads, Body 3,15x1,60mm, IPC Medium Density)
pins: 1, 2

## 2010-1W-0.005 F
designator R?  value 0.005  Foot: 2010  (hidden comment: 2010-1W-0.005 F)
Резистор Чип; Power: 1W
footprint resistor_2010
pins: 1, 2

## 2512-0.01 D
designator R?, comment value 0.01  Foot: 2512  (hidden comment: LVK24R010DER, OHMITE)
Резистор Чип; Power: 1W
footprint resistor_2512 (Chip Resistor, 2-Leads, Body 6,3x3,2mm, IPC Low Density)
pins: 1, 2

## 2512-0.1 F
designator R?  value 0.1  Foot: 2512  (hidden comment: 2512-0.1 F)
Резистор Чип; Power: 1W
footprint resistor_2512 (Chip Resistor, 2-Leads, Body 6,3x3,2mm, IPC Low Density)
pins: 1, 2

## 2512-1W-0.020 F
designator R?  value 0.02  Foot: 2512  (hidden comment: 2512-1W-0.020 F)
Резистор Чип; Power: 1W; Tolerance: 1%
footprint resistor_2512 (Chip Resistor, 2-Leads, Body 6,3x3,2mm, IPC Low Density)
pins: 1, 2

## 2512-22 к J
designator R?  value 22k  Foot: 2512  (hidden comment: 2512-22 к J)
Резистор Чип; Power: 1W; Price, $: 0.05
footprint resistor_2512 (Chip Resistor, 2-Leads, Body 6,3x3,2mm, IPC Low Density)
pins: 1, 2

## 2512-82к J
designator R?  value 82k  Foot: 2512  (hidden comment: 2512-82к J)
Резистор Чип; Power: 1W
footprint resistor_2512 (Chip Resistor, 2-Leads, Body 6,3x3,2mm, IPC Low Density)
pins: 1, 2

## 2512-100 J
designator R?  value 100  Foot: 2512  (hidden comment: 2512-100 J)
Резистор Чип; Power: 1W; Price, $: 0.05
footprint resistor_2512 (Chip Resistor, 2-Leads, Body 6,3x3,2mm, IPC Low Density)
pins: 1, 2

## 2512-180к J
designator R?  value 180k  Foot: 2512  (hidden comment: 2512-180к J)
Резистор Чип; Power: 1W
footprint resistor_2512 (Chip Resistor, 2-Leads, Body 6,3x3,2mm, IPC Low Density)
pins: 1, 2

## 2512-240 J
designator R?  value 240  Foot: 2512  (hidden comment: 2512-240 J)
Резистор Чип; Power: 1W; Price, $: 0.05
footprint resistor_2512 (Chip Resistor, 2-Leads, Body 6,3x3,2mm, IPC Low Density)
pins: 1, 2

## 2512-360 J
designator R?  value 360  Foot: 2512  (hidden comment: 2512-360 J)
Резистор Чип; Power: 1W
footprint resistor_2512 (Chip Resistor, 2-Leads, Body 6,3x3,2mm, IPC Low Density)
pins: 1, 2